# Altium footprint library 691322310002.PcbLib: 1 footprints
Each footprint in its own frame and in the unit in brackets; x right, y up, seen from the top. Pads: shape width x height; smd on the part's side, far side on the other; paste and mask are expansions set on the pad; w line width, h text height; cw(c..) or ccw(c..) is an arc to the next point about the centre after c.
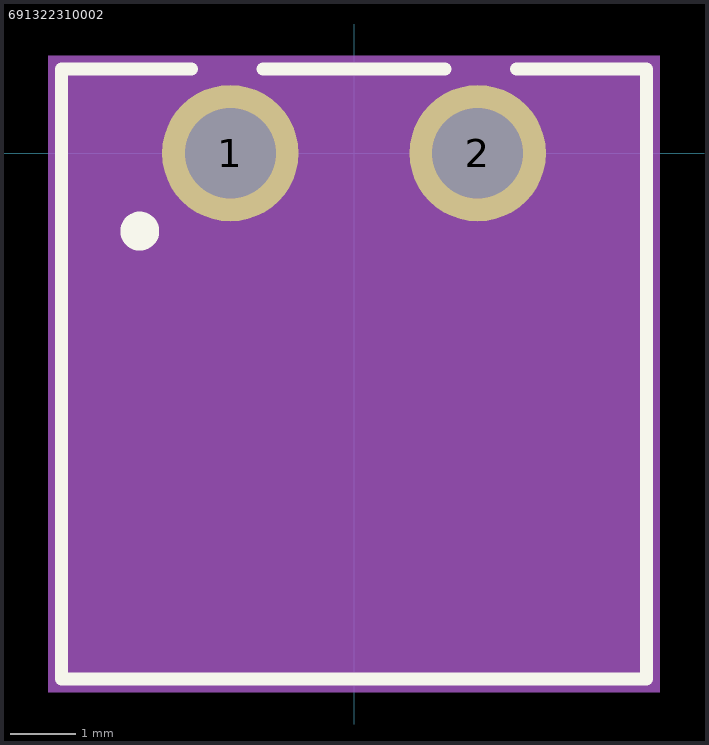
[diagram p0: the footprint, top view; thin cyan lines are the x and y axes]

## 691322310002 [mm]
pads (2):
  round 2.1 hole 1.4: 1(-1.905,0) 2(1.905,0)
Top Overlay:
  circle w0.4: c-3.3,-1.2 r0.1
  lines w0.2: -2.5,1.3 -4.505,1.3 -4.505,-8.1 4.505,-8.1 4.505,1.3 2.5,1.3 ; -1.4,1.3 1.4,1.3
Mechanical 13:
  lines w0.1: -4.405,-8 -4.405,1.2 4.405,1.2 4.405,-8 -4.405,-8
Mechanical 15:
  region: 4.705,-8.3 -4.705,-8.3 -4.705,1.5 4.705,1.5